# Altium footprint library RELAY_932.PcbLib: 1 footprints
Each footprint in its own frame and in the unit in brackets; x right, y up, seen from the top. Pads: shape width x height; smd on the part's side, far side on the other; paste and mask are expansions set on the pad; w line width, h text height; cw(c..) or ccw(c..) is an arc to the next point about the centre after c.
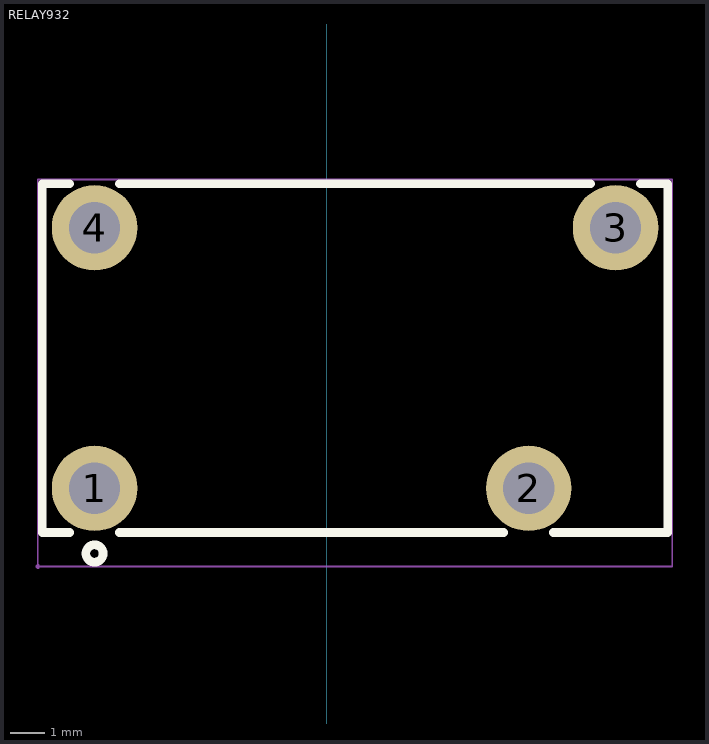
[diagram p0: the footprint, top view; thin cyan lines are the x and y axes]

## RELAY932 [mm]
pads (4):
  round 2.5 hole 1.5 paste+0 mask+0.051: 1(-6.792,8.315) 2(5.908,8.315) 3(8.448,15.935) 4(-6.792,15.935)
Top Overlay:
  circle w0.254: c-6.792,6.41 r0.254
  lines w0.254: -7.517,7.025 -8.322,7.025 -8.322,17.225 -7.517,17.225 ; -6.067,7.025 5.183,7.025 ; -6.067,17.225 7.723,17.225 ; 6.633,7.025 9.978,7.025 9.978,17.225 9.173,17.225
Mechanical 15:
  region: -8.389,6.029 -8.389,6.054 -8.424,6.089 -8.474,6.089 -8.509,6.054 -8.509,6.029 -8.509,6.004 -8.474,5.969 -8.424,5.969 -8.389,6.004
  region: -6.142,15.935 -6.143,16.064 -6.243,16.301 -6.425,16.482 -6.663,16.58 -6.921,16.58 -7.159,16.482 -7.341,16.301 -7.441,16.064 -7.442,15.935 -7.441,15.806 -7.341,15.569 -7.158,15.388 -6.921,15.29 -6.663,15.29 -6.425,15.388 -6.243,15.569 -6.143,15.806
  region: 9.098,15.935 9.097,16.064 8.997,16.301 8.815,16.482 8.577,16.58 8.319,16.58 8.081,16.482 7.899,16.301 7.799,16.064 7.798,15.935 7.799,15.806 7.899,15.569 8.082,15.388 8.319,15.29 8.577,15.29 8.815,15.388 8.997,15.569 9.097,15.806
  region: 6.558,8.315 6.557,8.444 6.457,8.681 6.275,8.862 6.037,8.96 5.779,8.96 5.541,8.862 5.359,8.681 5.259,8.444 5.258,8.315 5.259,8.186 5.359,7.949 5.542,7.768 5.779,7.67 6.037,7.67 6.275,7.768 6.457,7.949 6.557,8.186
  region: -6.142,8.315 -6.143,8.444 -6.243,8.681 -6.425,8.862 -6.663,8.96 -6.921,8.96 -7.159,8.862 -7.341,8.681 -7.441,8.444 -7.442,8.315 -7.441,8.186 -7.341,7.949 -7.158,7.768 -6.921,7.67 -6.663,7.67 -6.425,7.768 -6.243,7.949 -6.143,8.186
  lines w0.051: -8.449,6.029 -8.449,17.352 10.105,17.352 10.105,6.029 -8.449,6.029
3D body: height 18.4, standoff 0, extent -8.255,6.985 10.033,17.272